# EAGLE library part LOGIC,DELAYLINE,SER_DUAL (library QuantumOptics)
Delay line (clock skew), dual, serial, Micrel SY89297U.
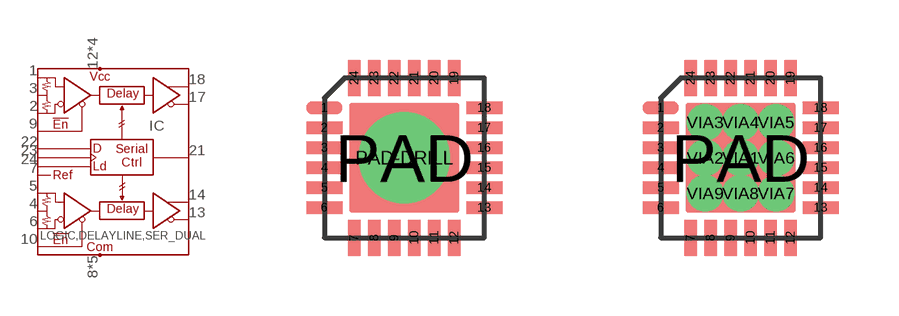
[diagram p160: symbol with the pads of QFN24(ONE_BIG_HOLE); footprints QFN24(ONE_BIG_HOLE), QFN24_W_VIAS]

Designator prefix IC

## LOGIC,DELAYLINE,SER_DUAL-QFN24  [QFN24(ONE_BIG_HOLE)]
1  INA  in
2  !INA  in
3  VTA  in
4  VTB  in
5  INB  in
6  !INB  in
7  VREF  out
8  COM
9  !ENA  in
10  !ENB  in
11  COM
12  VCC
13  !QB  out
14  QB  out
15  VCC
16  VCC
17  !QA  out
18  QA  out
19  VCC
20  COM
21  SER-OUT  out
22  SER-D  in
23  SER-CLK  in
24  SER-LD  in
PAD  COM
PAD-DRILL  COM

## LOGIC,DELAYLINE,SER_DUAL-QFN24_W_VIAS  [QFN24_W_VIAS]
1  INA  in
2  !INA  in
3  VTA  in
4  VTB  in
5  INB  in
6  !INB  in
7  VREF  out
8  COM
9  !ENA  in
10  !ENB  in
11  COM
12  VCC
13  !QB  out
14  QB  out
15  VCC
16  VCC
17  !QA  out
18  QA  out
19  VCC
20  COM
21  SER-OUT  out
22  SER-D  in
23  SER-CLK  in
24  SER-LD  in
PAD  COM
VIA1  COM
VIA2  COM
VIA3  COM
VIA4  COM
VIA5  COM
VIA6  COM
VIA7  COM
VIA8  COM
VIA9  COM

## Footprint QFN24(ONE_BIG_HOLE) (pad centres in mm)
QFN-24 with exposed pad, from Micrel SY89297U and ON Semi NB6L295. Set for 0.18mm (0.0071") track and space.
smd 0.9 x 0.32: 1 -2,1.25; 2 -2,0.75; 3 -2,0.25; 4 -2,-0.25; 5 -2,-0.75; 6 -2,-1.25; 13 2,-1.25; 14 2,-0.75; 15 2,-0.25; 16 2,0.25; 17 2,0.75; 18 2,1.25
smd 0.32 x 0.9: 7 -1.25,-2; 8 -0.75,-2; 9 -0.25,-2; 10 0.25,-2; 11 0.75,-2; 12 1.25,-2; 19 1.25,2; 20 0.75,2; 21 0.25,2; 22 -0.25,2; 23 -0.75,2; 24 -1.25,2
smd 2.74 x 2.74: PAD 0,0
drill 1.524: PAD-DRILL 0,0

## Footprint QFN24_W_VIAS (pad centres in mm)
QFN-24 with exposed pad and thermal viass,holes are tool sizes.From Micrel SY89297U and ON Semi NB6L295.
smd 0.9 x 0.32: 1 -2,1.25; 2 -2,0.75; 3 -2,0.25; 4 -2,-0.25; 5 -2,-0.75; 6 -2,-1.25; 13 2,-1.25; 14 2,-0.75; 15 2,-0.25; 16 2,0.25; 17 2,0.75; 18 2,1.25
smd 0.32 x 0.9: 7 -1.25,-2; 8 -0.75,-2; 9 -0.25,-2; 10 0.25,-2; 11 0.75,-2; 12 1.25,-2; 19 1.25,2; 20 0.75,2; 21 0.25,2; 22 -0.25,2; 23 -0.75,2; 24 -1.25,2
smd 2.74 x 2.74: PAD 0,0
drill 0.406 pad 0.711: VIA1 0,0; VIA2 -0.889,0; VIA3 -0.889,0.889; VIA4 0,0.889; VIA5 0.889,0.889; VIA6 0.889,0; VIA7 0.889,-0.889; VIA8 0,-0.889; VIA9 -0.889,-0.889